# Altium footprint library PCB.PcbLib: 224 footprints (part 11 of 14)
Each footprint in its own frame and in the unit in brackets; x right, y up, seen from the top. Pads: shape width x height; smd on the part's side, far side on the other; paste and mask are expansions set on the pad; w line width, h text height; cw(c..) or ccw(c..) is an arc to the next point about the centre after c.
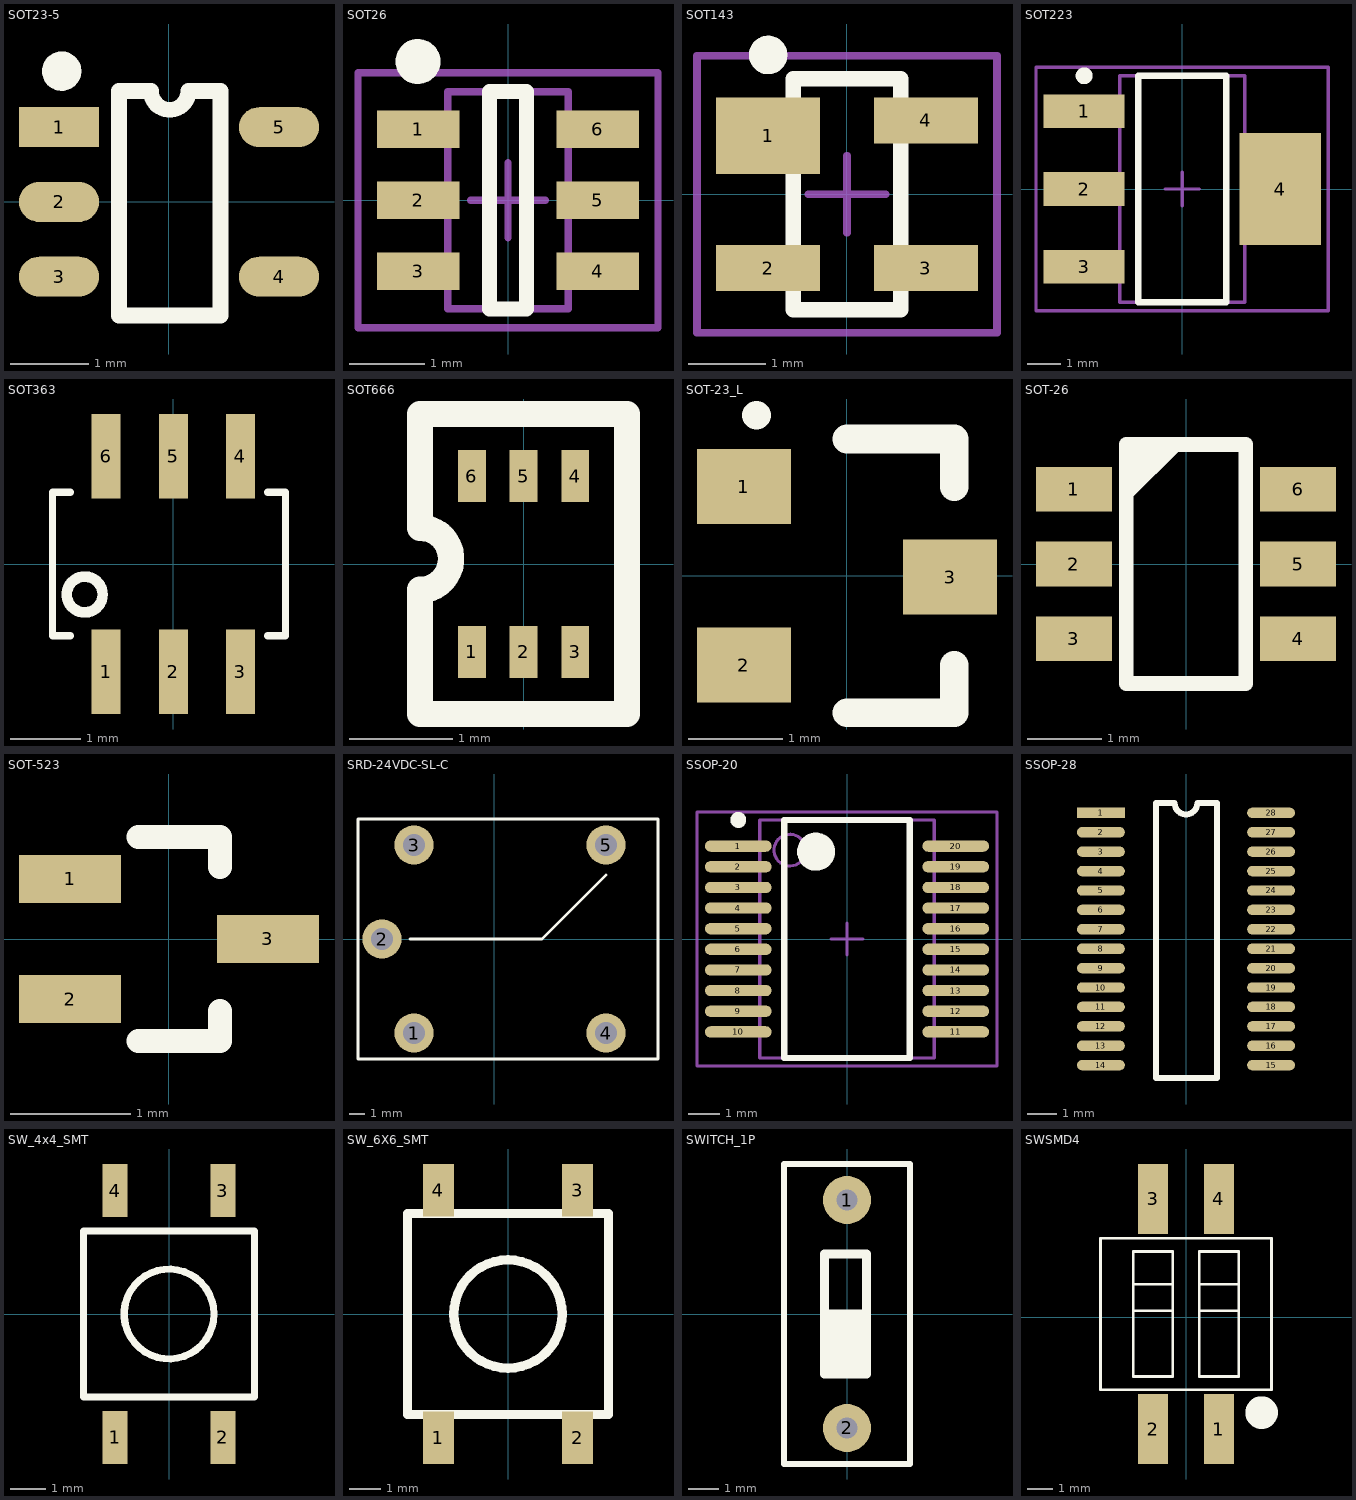
[diagram p10: the footprints below, top view; thin cyan lines are the x and y axes]

## SOT23-5 [mil] "SOT23, 5-Leads, Body 3.1x3.0mm (max), Pitch 0.95mm, IPC Medium Density"
height 43.31
pads (5):
  rect 40x20 smd: 1(-55,37.4)
  oval 40x20 smd: 2(-55,0) 3(-55,-37.4) 4(55,-37.4) 5(55,37.4)
Top Overlay:
  circle w9.84: c-53.66,65.4 r4.92
  lines w7.87: -25,55.4 -25,-56.8 25.7,-56.8 25.7,55.4 ; -9,55.4 ccw(c0.35,55.4) 9.7,55.4
  lines w8: -25,55.4 -9,55.4 ; 9.7,55.4 25.7,55.4

## SOT26 [mm]
height 1.45
pads (6):
  rect 1.1x0.5 smd: 1(-1.2,0.95) 2(-1.2,0) 3(-1.2,-0.95) 4(1.2,-0.95) 5(1.2,0) 6(1.2,0.95)
Top Overlay:
  circle w0.3: c-1.2,1.85 r0.15
  lines w0.2: -0.25,-1.45 -0.25,1.45 0.25,1.45 0.25,-1.45 -0.25,-1.45
Mechanical 13:
  lines w0.1: -0.8,-1.45 0.8,-1.45 0.8,1.45 -0.8,1.45 -0.8,-1.45
Mechanical 15:
  lines w0.1: -0.5,0 0.5,0 ; 0,-0.5 0,0.5 ; -2,-1.7 2,-1.7 2,1.7 -2,1.7 -2,-1.7
3D body: height 1.45, standoff 0.05, extent -0.8,-1.45 0.8,1.45

## SOT143 [mm] "SOT143, 4-Leads, Body 3.0x2.6mm (max), Pitch 1.92mm, IPC Medium Density"
height 1.2
pads (4):
  rect 1.35x1 smd: 1(-1.025,0.76)
  rect 1.35x0.6 smd: 2(-1.025,-0.96) 3(1.025,-0.96) 4(1.025,0.96)
Top Overlay:
  circle w0.25: c-1.025,1.81 r0.125
  lines w0.2: -0.7,-1.5 -0.7,1.5 0.7,1.5 0.7,-1.5 -0.7,-1.5
Mechanical 13:
  lines w0.1: -0.7,-1.52 0.7,-1.52 0.7,1.52 -0.7,1.52 -0.7,-1.52
Mechanical 15:
  lines w0.1: -0.5,0 0.5,0 ; 0,-0.5 0,0.5 ; -1.95,-1.8 1.95,-1.8 1.95,1.8 -1.95,1.8 -1.95,-1.8
3D body: height 1.2, standoff 0.15, extent -0.7,-1.52 0.7,1.52

## SOT223 [mm] "SOT223, 4-Leads, Body 6.7x7.3mm (max), Pitch 2.30mm, IPC Medium Density"
height 1.8
pads (4):
  rect 2.4x1 smd: 1(-2.9,2.3) 2(-2.9,0) 3(-2.9,-2.3)
  rect 2.4x3.3 smd: 4(2.9,0)
Top Overlay:
  circle w0.25: c-2.9,3.35 r0.125
  lines w0.2: -1.3,-3.35 -1.3,3.35 1.3,3.35 1.3,-3.35 -1.3,-3.35
Mechanical 13:
  lines w0.1: -1.85,-3.35 -1.85,3.35 1.85,3.35 1.85,-3.35 -1.85,-3.35
Mechanical 15:
  lines w0.1: -0.5,0 0.5,0 ; 0,-0.5 0,0.5 ; -4.325,-3.6 -4.325,3.6 4.325,3.6 4.325,-3.6 -4.325,-3.6
3D body: height 1.8, standoff 0.02, extent -1.85,-3.35 1.85,3.35

## SOT363 [mm]
pads (6):
  rect 0.41x1.2 smd: 1(-0.95,-1.524) 2(0,-1.524) 3(0.95,-1.524) 4(0.95,1.524) 5(0,1.524) 6(-0.95,1.524)
Top Overlay:
  circle w0.15: c-1.255,-0.432 r0.254
  lines w0.1: -1.458,-1.016 -1.712,-1.016 -1.712,1.016 -1.458,1.016 ; 1.336,-1.016 1.59,-1.016 1.59,1.016 1.336,1.016

## SOT666 [mm]
pads (6):
  rect 0.27x0.5 smd: 1(-0.5,-0.85) 2(0,-0.85) 3(0.5,-0.85) 4(0.5,0.85) 5(0,0.85) 6(-0.5,0.85)
Top Overlay:
  lines w0.254: -1,-1.45 -1,-0.25 ccw(c-1,0.05) -1,0.35 -1,1.45 1,1.45 1,-1.45 0.4,-1.45 -1,-1.45

## SOT-23_L [mm]
pads (3):
  rect 1x0.8 smd: 1(-1.1,0.953) 2(-1.1,-0.953) 3(1.1,-0.013)
Top Overlay:
  lines w0.305: 0,-1.46 1.143,-1.46 1.143,-0.953 ; 0,1.46 1.143,1.46 1.143,0.952 ; -0.965,1.714 -0.965,1.714

## SOT-26 [mm]
pads (6):
  rect 1.016x0.6 smd: 1(-1.5,1) 2(-1.5,0) 3(-1.5,-1) 4(1.5,-1) 5(1.5,0) 6(1.5,1)
Top Overlay:
  lines w0.152: -0.789,0.924 -0.128,1.584 ; -0.789,1.381 -0.611,1.559
  lines w0.2: -0.8,-1.6 -0.8,1.6 0.8,1.6 0.8,-1.6 -0.8,-1.6
  lines w0.203: -0.763,1.229 -0.433,1.559 ; -0.693,1.149 -0.363,1.479

## SOT-523 [mm] "SOT23, 3-Leads, Body 1.7x1.8mm (max), Pitch 0.50mm, IPC Medium Density"
height 0.9
pads (3):
  rect 0.85x0.4 smd: 1(-0.825,0.5) 2(-0.825,-0.5) 3(0.825,0)
Top Overlay:
  lines w0.2: -0.254,-0.85 0.425,-0.85 0.425,-0.6 ; -0.254,0.85 0.425,0.85 0.425,0.6

## SRD-24VDC-SL-C [mm]
pads (5):
  round 2.5 hole 1.4: 1(-5.08,-5.969) 2(-7.112,0) 3(-5.08,5.969) 4(7.112,-5.969) 5(7.112,5.969)
Top Overlay:
  lines w0.2: -5.334,0 3.048,0 7.112,4.064 ; -8.636,-7.62 -8.636,0 -8.636,7.62 10.414,7.62 10.414,-7.62 -8.636,-7.62

## SSOP-20 [mm] "SOP, 20-Leads, Body 7.5x5.5mm (max), Pitch 0.65mm, IPC Medium Density"
height 2.65
pads (20):
  oval 2.1x0.356 smd: 1(-3.425,2.925) 2(-3.425,2.275) 3(-3.425,1.625) 4(-3.425,0.975) 5(-3.425,0.325) 6(-3.425,-0.325) 7(-3.425,-0.975) 8(-3.425,-1.625) 9(-3.425,-2.275) 10(-3.425,-2.925) 11(3.425,-2.925) 12(3.425,-2.275) 13(3.425,-1.625) 14(3.425,-0.975) 15(3.425,-0.325) 16(3.425,0.325) 17(3.425,0.975) 18(3.425,1.625) 19(3.425,2.275) 20(3.425,2.925)
Top Overlay:
  circle w0.6: c-0.975,2.75 r0.3
  circle w0.25: c-3.425,3.75 r0.125
  lines w0.2: -1.975,-3.75 1.975,-3.75 1.975,3.75 -1.975,3.75 -1.975,-3.75
Mechanical 13:
  circle w0.1: c-1.8,2.8 r0.5
  lines w0.1: -2.75,-3.75 2.75,-3.75 2.75,3.75 -2.75,3.75 -2.75,-3.75
Mechanical 15:
  lines w0.1: -0.5,0 0.5,0 ; 0,-0.5 0,0.5 ; -4.725,-4 4.725,-4 4.725,4 -4.725,4 -4.725,-4
3D body: height 2.65, standoff 0.1, extent -2.75,-3.75 2.75,3.75

## SSOP-28 [mm]
pads (28):
  rect 1.6x0.35 smd: 1(-2.85,4.225)
  oval 1.6x0.35 smd: 2(-2.85,3.575) 3(-2.85,2.925) 4(-2.85,2.275) 5(-2.85,1.625) 6(-2.85,0.975) 7(-2.85,0.325) 8(-2.85,-0.325) 9(-2.85,-0.975) 10(-2.85,-1.625) 11(-2.85,-2.275) 12(-2.85,-2.925) 13(-2.85,-3.575) 14(-2.85,-4.225) 15(2.85,-4.225) 16(2.85,-3.575) 17(2.85,-2.925) 18(2.85,-2.275) 19(2.85,-1.625) 20(2.85,-0.975) 21(2.85,-0.325) 22(2.85,0.325) 23(2.85,0.975) 24(2.85,1.625) 25(2.85,2.275) 26(2.85,2.925) 27(2.85,3.575) 28(2.85,4.225)
Top Overlay:
  lines w0.2: -0.999,-4.65 1.033,-4.65 1.033,4.55 0.381,4.55 cw(c0,4.55) -0.381,4.55 -0.999,4.55 -0.999,-4.65
3D body: height 1.75, standoff 0.25, extent -1.778,-4.572 1.778,4.572

## SW_4x4_SMT [mm]
pads (4):
  rect 0.7x1.5 smd: 1(-1.524,-3.492) 2(1.524,-3.492) 3(1.524,3.492) 4(-1.524,3.492)
Top Overlay:
  circle w0.203: c0,0 r1.27
  lines w0.2: -2.413,-2.349 2.413,-2.349 2.413,2.349 -2.413,2.349 -2.413,-2.349

## SW_6X6_SMT [mm]
pads (4):
  rect 1x1.7 smd: 1(-2.25,-4) 2(2.25,-4) 3(2.25,4) 4(-2.25,4)
Top Overlay:
  circle w0.3: c0,0 r1.75
  lines w0.3: -3.25,-3.25 3.25,-3.25 3.25,3.25 -3.25,3.25 -3.25,-3.25

## SWITCH_1P [mm]
pads (2):
  round 1.6 hole 0.7: 1(0,3.8) 2(0,-3.8)
Top Overlay:
  lines w0.2: -2.1,-5 2.1,-5 2.1,5 -2.1,5 -2.1,-5
  lines w0.3: -0.75,0 -0.75,2 0.65,2 0.65,0 ; -0.75,0 0.65,0 ; -0.75,0 -0.75,-2 0.65,-2 0.65,0 ; -0.75,0 0.65,0
  lines w1: -0.25,-1.5 -0.25,-0.5 0.25,-0.5 0.25,-1.5 -0.25,-1.5

## SWSMD4 [mm]
height 0.65
pads (4):
  rect 1.15x2.7 smd: 1(1.27,-4.318) 2(-1.27,-4.318) 3(-1.27,4.572) 4(1.27,4.572)
Top Overlay:
  circle w1: c2.921,-3.683 r0.127
  lines w0.1: -2.032,0.254 -0.508,0.254 ; -2.032,1.27 -0.508,1.27 ; 0.508,0.254 2.032,0.254 ; 0.508,1.27 2.032,1.27 ; -3.302,-2.794 3.302,-2.794 3.302,3.048 -3.302,3.048 -3.302,-2.794 ; -2.032,-2.286 -0.508,-2.286 -0.508,2.54 -2.032,2.54 -2.032,-2.286 ; 0.508,-2.286 2.032,-2.286 2.032,2.54 0.508,2.54 0.508,-2.286
3D body: height 3, standoff 0.25, extent -3.302,-3.556 3.302,3.81